# Altium footprint library SO14-150.PcbLib: 1 footprints
Each footprint in its own frame and in the unit in brackets; x right, y up, seen from the top. Pads: shape width x height; smd on the part's side, far side on the other; paste and mask are expansions set on the pad; w line width, h text height; cw(c..) or ccw(c..) is an arc to the next point about the centre after c.
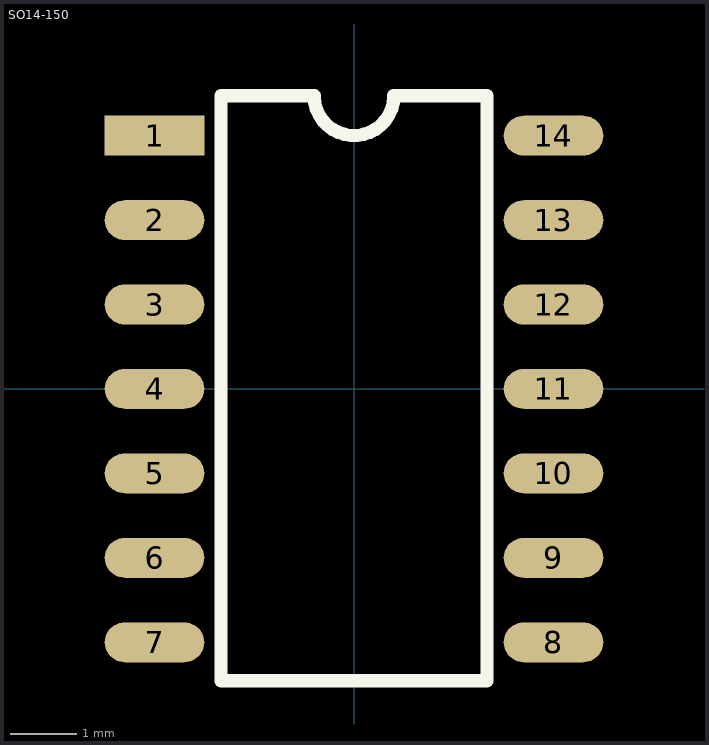
[diagram p0: the footprint, top view; thin cyan lines are the x and y axes]

## SO14-150 [mm]
pads (14):
  rect 1.5x0.6 smd: 1(-3,3.81)
  oval 1.5x0.6 smd: 2(-3,2.54) 3(-3,1.27) 4(-3,0) 5(-3,-1.27) 6(-3,-2.54) 7(-3,-3.81) 8(3,-3.81) 9(3,-2.54) 10(3,-1.27) 11(3,0) 12(3,1.27) 13(3,2.54) 14(3,3.81)
Top Overlay:
  lines w0.2: -0.605,4.41 -2,4.41 -2,-4.39 2,-4.39 2,4.41 0.595,4.41 ; -0.6,4.41 ccw(c0,4.41) 0.6,4.41
Top Assembly:
  lines w0.1: -2,-4.39 -2,4.41 -0.6,4.41 ccw(c0,4.41) 0.6,4.41 2,4.41 2,-4.39 -2,-4.39
  text "'.Designator'" at -0.7,0.01 h0.7
3D body "User Library-so14-1.step": height 1.7, standoff 0, extent -2.975,-4.39 3.025,4.41